# Altium footprint library pimoroni-boards2040.PCBLIB: 1 footprints
Each footprint in its own frame and in the unit in brackets; x right, y up, seen from the top. Pads: shape width x height; smd on the part's side, far side on the other; paste and mask are expansions set on the pad; w line width, h text height; cw(c..) or ccw(c..) is an arc to the next point about the centre after c.
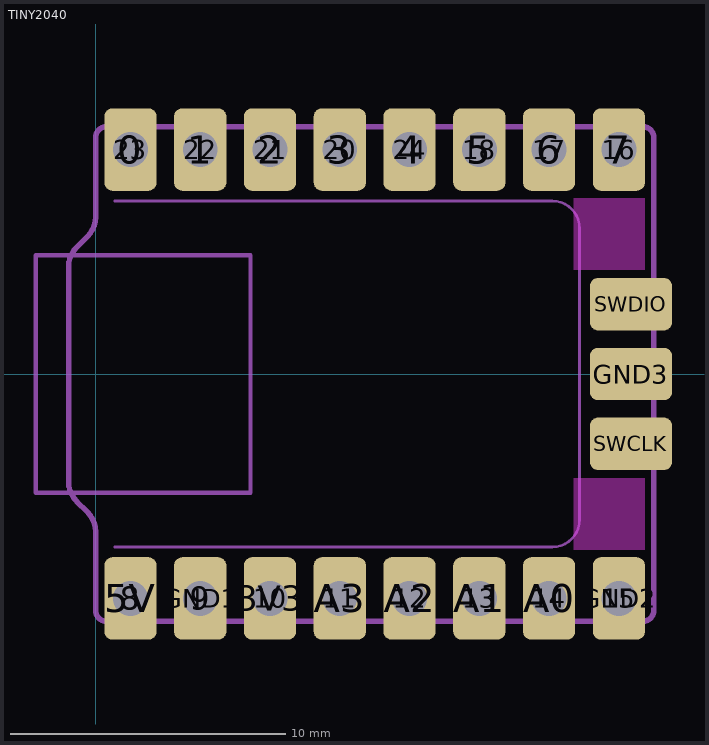
[diagram p0: the footprint, top view; thin cyan lines are the x and y axes]

## TINY2040 [mil]
pads (35):
  rrect30% 74.8x118.11 smd: 0(50,321.65) 1(150,321.65) 2(250,321.65) 3(350,321.65) 3V3(250,-321.65) 4(450,321.65) 5(550,321.65) 5V(50,-321.65) 6(650,321.65) 7(750,321.65) A0(650,-321.65) A1(550,-321.65) A2(450,-321.65) A3(350,-321.65) GND1(150,-321.65) GND2(750,-321.65)
  round 60 hole 50: 8(50,-321.65) 9(150,-321.65) 10(250,-321.65) 11(350,-321.65) 12(450,-321.65) 13(550,-321.65) 14(650,-321.65) 15(750,-321.65) 16(750,321.65) 17(650,321.65) 18(550,321.65) 20(350,321.65) 21(250,321.65) 22(150,321.65) 23(50,321.65) 24(450,321.65)
  rrect30% 118.11x74.8 smd: GND3(767.32,0) SWCLK(767.32,-100) SWDIO(767.32,100)
Top keep-out:
  region: 685.04,149.61 685.04,251.97 787.4,251.97 787.4,149.61
  region: 685.04,-251.97 685.04,-149.61 787.4,-149.61 787.4,-251.97
Dimension:
  lines w3.94: 27.56,-248.03 654.33,-248.03 ccw(c654.33,-208.66) 693.7,-208.66 693.7,208.66 ccw(c654.33,208.66) 654.33,248.03 27.56,248.03
tDocu:
  lines w0.39: -14.76,170.08 48.23,170.08 ; 139.96,-170.08 222.24,-170.08 222.64,-170.08 ; 139.96,170.08 222.24,170.08 222.64,170.08
  lines w6: -85.63,-170.08 222.24,-170.08 222.24,170.08 -85.63,170.08 -85.63,-170.08
tPlace:
  lines w7.87: -38.58,-154.56 ccw(c0.79,-154.56) -27.05,-182.4 -11.53,-197.92 cw(c-39.37,-225.76) 0,-225.76 0,-338.58 ccw(c15.75,-338.58) 15.75,-354.33 784.25,-354.33 ccw(c784.25,-338.58) 800,-338.58 800,338.58 ccw(c784.25,338.58) 784.25,354.33 15.75,354.33 ccw(c15.75,338.58) 0,338.58 0,224.97 cw(c-39.37,224.97) -11.53,197.13 -27.05,181.61 ccw(c0.79,153.77) -38.58,153.77 -38.58,-154.56